# Altium schematic symbol library SchLib_Sceric.SchLib: 4 symbols
Pins are listed as number, name and electrical type; pins without a type are passive.

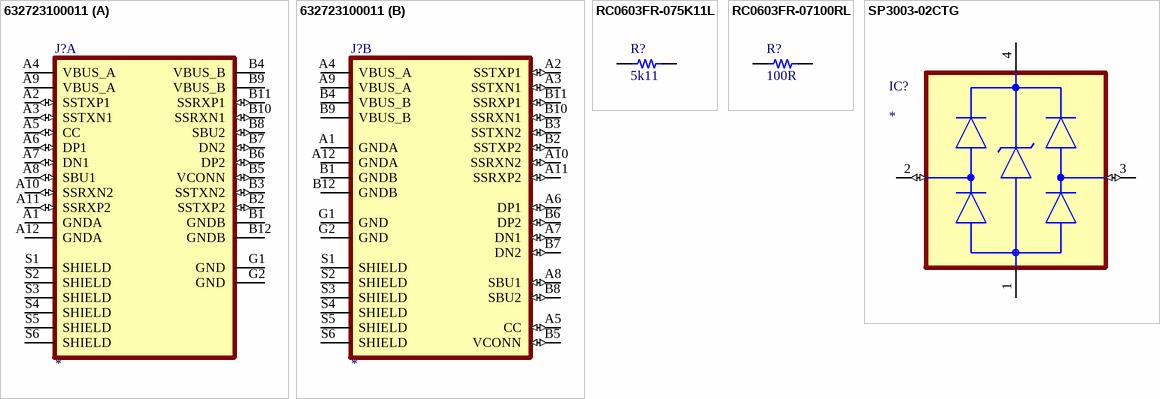
[diagram p0: symbols 632723100011 to SP3003-02CTG]

## 632723100011
designator J?
USB-C _USB TYPE-C_ USB 3.1 _USB 3.1 Gen 2, Superspeed+_ Receptacle Connector 24 Position Surface Mount, Right Angle; Through Hole; Value: USB_Type_C; MP: 632723100011; MF: Wurth Electronics; Package: SMD_PTH; Category: Connector
footprint WURTH_632723100011
footprint WURTH_632723100011
footprint WURTH_632723100011
footprint WURTH_632723100011
part A pins: A1 GNDA (power), A2 SSTXP1 (io), A3 SSTXN1 (io), A4 VBUS_A (power), A5 CC (io), A6 DP1 (io), A7 DN1 (io), A8 SBU1 (io), A9 VBUS_A (power), A10 SSRXN2 (io), A11 SSRXP2 (io), A12 GNDA (power), B1 GNDB (power), B2 SSTXP2 (io), B3 SSTXN2 (io), B4 VBUS_B (power), B5 VCONN (io), B6 DP2 (io), B7 DN2 (io), B8 SBU2 (io), B9 VBUS_B (power), B10 SSRXN1 (io), B11 SSRXP1 (io), B12 GNDB (power), G1 GND (power), G2 GND (power), S1 SHIELD, S2 SHIELD, S3 SHIELD, S4 SHIELD, S5 SHIELD, S6 SHIELD
part B pins: A1 GNDA (power), A2 SSTXP1 (io), A3 SSTXN1 (io), A4 VBUS_A (power), A5 CC (io), A6 DP1 (io), A7 DN1 (io), A8 SBU1 (io), A9 VBUS_A (power), A10 SSRXN2 (io), A11 SSRXP2 (io), A12 GNDA (power), B1 GNDB (power), B2 SSTXP2 (io), B3 SSTXN2 (io), B4 VBUS_B (power), B5 VCONN (io), B6 DP2 (io), B7 DN2 (io), B8 SBU2 (io), B9 VBUS_B (power), B10 SSRXN1 (io), B11 SSRXP1 (io), B12 GNDB (power), G1 GND (power), G2 GND (power), S1 SHIELD, S2 SHIELD, S3 SHIELD, S4 SHIELD, S5 SHIELD, S6 SHIELD

## RC0603FR-075K11L
designator R?, comment 5k11
5k11,  1% , 100ppm, 0.100W, 0603, SMD; Part Number: RC0603FR-075K11L; Manufacturer: Yageo; TemperatureRange: -55C ~ 155C; TemperatureCoefficient: 100ppm/C; PowerRating: 0.100W, 1/10W; Value: 5k11; Tolerance: 1%; Price: 0.0089; Device Package: 1608 (0603 Metric); Category: Resistor
footprint 0603_R
pins: 1, 2

## RC0603FR-07100RL
designator R?, comment 100R
100R,  1% , 100ppm, 0.100W, 0603, SMD; Part Number: RC0603FR-07100RL; Manufacturer: Yageo; TemperatureRange: -55C ~ 155C; TemperatureCoefficient: 100ppm/C; PowerRating: 0.100W, 1/10W; Value: 100R; Tolerance: 1%; Price: 0.0089; Device Package: 1608 (0603 Metric); Category: Resistor
footprint 0603_R
pins: 1, 2

## SP3003-02CTG
designator IC?
SR05 Series 5V 25A; MPN: SP3003-02CTG; Manufacture Name: Littelfuse; SPN: 576-SR05-02CTG; Category: ESD Suppressors; Supplier Name: Mouser; Value: *; Package: SOT143
footprint Littelfuse_SR05_MFG
pins: 1 GND (power), 2 I/O 1 (io), 3 I/O 2 (io), 4 VCC (power)